# Altium footprint library samtec-fle.PcbLib: 2 footprints
Each footprint in its own frame and in the unit in brackets; x right, y up, seen from the top. Pads: shape width x height; smd on the part's side, far side on the other; paste and mask are expansions set on the pad; w line width, h text height; cw(c..) or ccw(c..) is an arc to the next point about the centre after c.
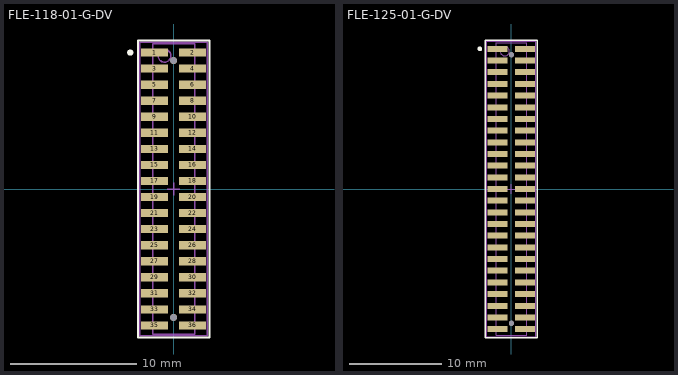
[diagram p0: the footprints below, top view; thin cyan lines are the x and y axes]

## FLE-118-01-G-DV [mm] "SAMTEC SOCKET SMD 1.27mm 2x18"
height 4.55
pads (38):
  round 0.55 hole 0.55 unplated: 0(0,-10.16) 0(0,10.16)
  rect 2.15x0.65 smd: 1(-1.5,10.795) 2(1.5,10.795) 3(-1.5,9.525) 4(1.5,9.525) 5(-1.5,8.255) 6(1.5,8.255) 7(-1.5,6.985) 8(1.5,6.985) 9(-1.5,5.715) 10(1.5,5.715) 11(-1.5,4.445) 12(1.5,4.445) 13(-1.5,3.175) 14(1.5,3.175) 15(-1.5,1.905) 16(1.5,1.905) 17(-1.5,0.635) 18(1.5,0.635) 19(-1.5,-0.635) 20(1.5,-0.635) 21(-1.5,-1.905) 22(1.5,-1.905) 23(-1.5,-3.175) 24(1.5,-3.175) 25(-1.5,-4.445) 26(1.5,-4.445) 27(-1.5,-5.715) 28(1.5,-5.715) 29(-1.5,-6.985) 30(1.5,-6.985) 31(-1.5,-8.255) 32(1.5,-8.255) 33(-1.5,-9.525) 34(1.5,-9.525) 35(-1.5,-10.795) 36(1.5,-10.795)
Top Overlay:
  circle w0.25: c-3.427,10.795 r0.125
  lines w0.16: -2.825,-11.745 -2.825,11.745 2.825,11.745 2.825,-11.745 -2.825,-11.745
Mechanical 13:
  circle w0.1: c-0.715,10.535 r0.5
  lines w0.1: -0.5,0 0.5,0 ; 0,-0.5 0,0.5 ; -1.665,-11.475 -1.665,11.475 1.665,11.475 1.665,-11.475 -1.665,-11.475
Mechanical 15:
  lines w0.1: -2.675,-11.595 -2.675,11.595 2.675,11.595 2.675,-11.595 -2.675,-11.595
  text ".Designator" at 0.2,-2 h0.5
3D body: height 4.54, standoff -0.72, extent -2.299,-11.487 2.299,11.487

## FLE-125-01-G-DV [mm] "SAMTEC SOCKET SMD 1.27mm 2x25"
height 4.55
pads (52):
  round 0.55 hole 0.55 unplated: 0(0,-14.605) 0(0,14.605)
  rect 2.15x0.65 smd: 1(-1.5,15.24) 2(1.5,15.24) 3(-1.5,13.97) 4(1.5,13.97) 5(-1.5,12.7) 6(1.5,12.7) 7(-1.5,11.43) 8(1.5,11.43) 9(-1.5,10.16) 10(1.5,10.16) 11(-1.5,8.89) 12(1.5,8.89) 13(-1.5,7.62) 14(1.5,7.62) 15(-1.5,6.35) 16(1.5,6.35) 17(-1.5,5.08) 18(1.5,5.08) 19(-1.5,3.81) 20(1.5,3.81) 21(-1.5,2.54) 22(1.5,2.54) 23(-1.5,1.27) 24(1.5,1.27) 25(-1.5,0) 26(1.5,0) 27(-1.5,-1.27) 28(1.5,-1.27) 29(-1.5,-2.54) 30(1.5,-2.54) 31(-1.5,-3.81) 32(1.5,-3.81) 33(-1.5,-5.08) 34(1.5,-5.08) 35(-1.5,-6.35) 36(1.5,-6.35) 37(-1.5,-7.62) 38(1.5,-7.62) 39(-1.5,-8.89) 40(1.5,-8.89) 41(-1.5,-10.16) 42(1.5,-10.16) 43(-1.5,-11.43) 44(1.5,-11.43) 45(-1.5,-12.7) 46(1.5,-12.7) 47(-1.5,-13.97) 48(1.5,-13.97) 49(-1.5,-15.24) 50(1.5,-15.24)
Top Overlay:
  circle w0.25: c-3.427,15.24 r0.125
  lines w0.16: -2.825,-16.2 -2.825,16.2 2.825,16.2 2.825,-16.2 -2.825,-16.2
Mechanical 13:
  circle w0.1: c-0.715,14.98 r0.5
  lines w0.1: -0.5,0 0.5,0 ; 0,-0.5 0,0.5 ; -1.665,-15.93 -1.665,15.93 1.665,15.93 1.665,-15.93 -1.665,-15.93
Mechanical 15:
  lines w0.1: -2.675,-16.05 -2.675,16.05 2.675,16.05 2.675,-16.05 -2.675,-16.05
  text ".Designator" at 0.225,-1.85 h0.5
3D body: height 4.54, standoff -0.72, extent -2.299,-15.932 2.299,15.932